# Altium schematic symbol library Communication.SchLib: 2 symbols
Pins are listed as number, name and electrical type; pins without a type are passive.

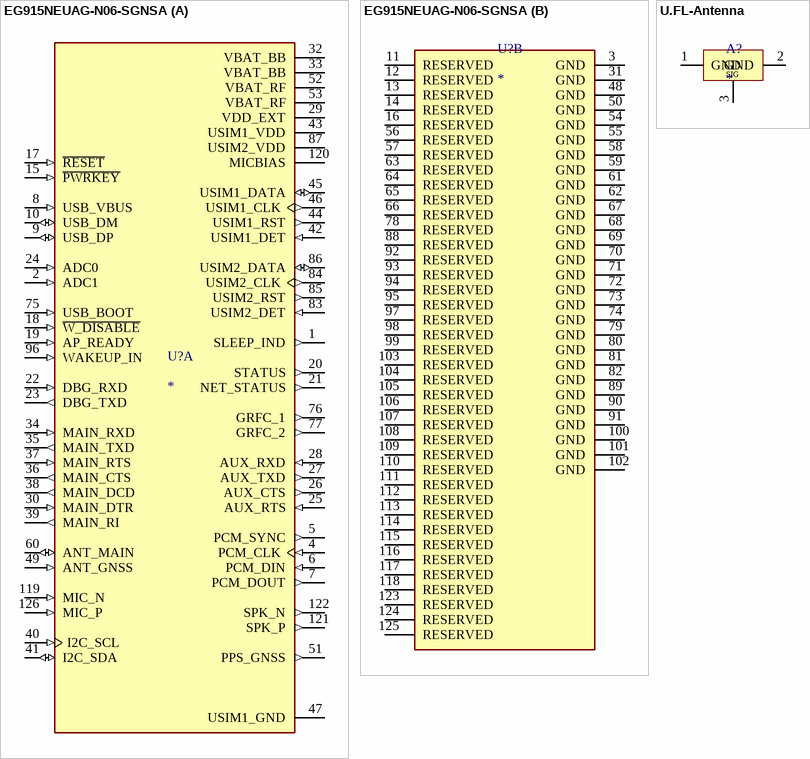
[diagram p0: symbols EG915NEUAG-N06-SGNSA to U.FL-Antenna]

## EG915NEUAG-N06-SGNSA
designator U?
LTE Cat 1 module; val: EG915N-EU; note: Original; sample link: *
footprint XCVR_EG915NEUAG-N06-SGNSA
part A pins: 1 SLEEP_IND (out), 2 ADC1 (in), 4 PCM_CLK (in), 5 PCM_SYNC (out), 6 PCM_DIN (in), 7 PCM_DOUT (out), 8 USB_VBUS (in), 9 USB_DP (io), 10 USB_DM (io), 15 ~{PWRKEY} (in), 17 ~{RESET} (in), 18 ~{W_DISABLE} (in), 19 AP_READY (in), 20 STATUS (out), 21 NET_STATUS (out), 22 DBG_RXD (in), 23 DBG_TXD (out), 24 ADC0 (in), 25 AUX_RTS (in), 26 AUX_CTS (out), 27 AUX_TXD (out), 28 AUX_RXD (in), 29 VDD_EXT (power), 30 MAIN_DTR (in), 32 VBAT_BB (power), 33 VBAT_BB (power), 34 MAIN_RXD (in), 35 MAIN_TXD (out), 36 MAIN_CTS (out), 37 MAIN_RTS (in), 38 MAIN_DCD (out), 39 MAIN_RI (out), 40 I2C_SCL (in), 41 I2C_SDA (io), 42 USIM1_DET (in), 43 USIM1_VDD (power), 44 USIM1_RST (out), 45 USIM1_DATA (io), 46 USIM1_CLK (out), 47 USIM1_GND (power), 49 ANT_GNSS (in), 51 PPS_GNSS (out), 52 VBAT_RF (power), 53 VBAT_RF (power), 60 ANT_MAIN (io), 75 USB_BOOT (in), 76 GRFC_1 (out), 77 GRFC_2 (out), 83 USIM2_DET (in), 84 USIM2_CLK (out), 85 USIM2_RST (out), 86 USIM2_DATA (io), 87 USIM2_VDD (power), 96 WAKEUP_IN (in), 119 MIC_N (in), 120 MICBIAS (power), 121 SPK_P (out), 122 SPK_N (out), 126 MIC_P (in)
part B pins: 3 GND (power), 11 RESERVED, 12 RESERVED, 13 RESERVED, 14 RESERVED, 16 RESERVED, 31 GND (power), 48 GND (power), 50 GND (power), 54 GND (power), 55 GND (power), 56 RESERVED, 57 RESERVED, 58 GND (power), 59 GND (power), 61 GND (power), 62 GND (power), 63 RESERVED, 64 RESERVED, 65 RESERVED, 66 RESERVED, 67 GND (power), 68 GND (power), 69 GND (power), 70 GND (power), 71 GND (power), 72 GND (power), 73 GND (power), 74 GND (power), 78 RESERVED, 79 GND (power), 80 GND (power), 81 GND (power), 82 GND (power), 88 RESERVED, 89 GND (power), 90 GND (power), 91 GND (power), 92 RESERVED, 93 RESERVED, 94 RESERVED, 95 RESERVED, 97 RESERVED, 98 RESERVED, 99 RESERVED, 100 GND (power), 101 GND (power), 102 GND (power), 103 RESERVED, 104 RESERVED, 105 RESERVED, 106 RESERVED, 107 RESERVED, 108 RESERVED, 109 RESERVED, 110 RESERVED, 111 RESERVED, 112 RESERVED, 113 RESERVED, 114 RESERVED, 115 RESERVED, 116 RESERVED, 117 RESERVED, 118 RESERVED, 123 RESERVED, 124 RESERVED, 125 RESERVED

## U.FL-Antenna
designator A?
U.FL Antenna coax receptacle - 50Ohm impedance; val: BWU.FL-IPEX1; note: *; sample link: https://www.lcsc.com/product-detail/C5137195.html?s_z=n_U.FL%2520%28IPEX%2520MHF1%29
footprint U.FL-Antenna
pins: 1 GND, 2 GND, 3 SIG